# Altium footprint library PcbLib1.PcbLib: 34 footprints (part 3 of 3)
Each footprint in its own frame and in the unit in brackets; x right, y up, seen from the top. Pads: shape width x height; smd on the part's side, far side on the other; paste and mask are expansions set on the pad; w line width, h text height; cw(c..) or ccw(c..) is an arc to the next point about the centre after c.
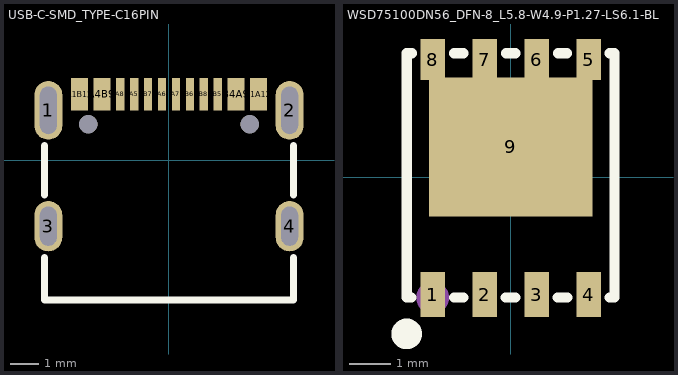
[diagram p2: the footprints below, top view; thin cyan lines are the x and y axes]

## USB-C-SMD_TYPE-C16PIN [mm]
pads (18):
  oval 1x2.1 hole 0.6 slot 1.7 at 90 deg: 1(-4.32,1.787) 2(4.32,1.787)
  oval 1x1.8 hole 0.6 slot 1.4 at 90 deg: 3(-4.32,-2.362) 4(4.32,-2.362)
  rect 0.6x1.15 smd: A1B12(-3.2,2.362) A4B9(-2.4,2.362) B1A12(3.2,2.362) B4A9(2.4,2.362)
  rect 0.3x1.15 smd: A5(-1.25,2.362) A6(-0.25,2.362) A7(0.25,2.362) A8(-1.75,2.362) B5(1.75,2.362) B6(0.75,2.362) B7(-0.75,2.362) B8(1.25,2.362)
  round 0.65 hole 0.65 unplated: ""(-2.89,1.288) ""(2.89,1.288)
Top Overlay:
  lines w0.254: -4.45,-3.482 -4.45,-5 4.45,-5 4.45,-3.482 ; -4.45,-1.243 -4.45,0.518 ; 4.45,-1.243 4.45,0.518
Top Paste:
  region: -3.5,2.937 -2.9,2.937 -2.9,1.787 -3.5,1.787
  region: -2.7,2.937 -2.1,2.937 -2.1,1.787 -2.7,1.787
  region: 2.9,2.937 3.5,2.937 3.5,1.787 2.9,1.787
  region: 2.1,2.937 2.7,2.937 2.7,1.787 2.1,1.787
  region: 1.6,2.937 1.9,2.937 1.9,1.787 1.6,1.787
  region: 1.1,2.937 1.4,2.937 1.4,1.787 1.1,1.787
  region: 0.6,2.937 0.9,2.937 0.9,1.787 0.6,1.787
  region: 0.1,2.937 0.4,2.937 0.4,1.787 0.1,1.787
  region: -0.4,2.937 -0.1,2.937 -0.1,1.787 -0.4,1.787
  region: -0.9,2.937 -0.6,2.937 -0.6,1.787 -0.9,1.787
  region: -1.4,2.937 -1.1,2.937 -1.1,1.787 -1.4,1.787
  region: -1.9,2.937 -1.6,2.937 -1.6,1.787 -1.9,1.787
  region: 3.82,-1.962 3.82,-1.863 3.896,-1.679 4.037,-1.539 4.221,-1.462 4.419,-1.462 4.603,-1.539 4.744,-1.679 4.82,-1.863 4.82,-1.962 4.82,-2.762 4.82,-2.862 4.744,-3.046 4.603,-3.186 4.419,-3.262 4.221,-3.262 4.037,-3.186 3.896,-3.046 3.82,-2.862 3.82,-2.762
  region: -4.82,-1.962 -4.82,-1.863 -4.744,-1.679 -4.603,-1.539 -4.419,-1.462 -4.221,-1.462 -4.037,-1.539 -3.896,-1.679 -3.82,-1.863 -3.82,-1.962 -3.82,-2.762 -3.82,-2.862 -3.896,-3.046 -4.037,-3.186 -4.221,-3.262 -4.419,-3.262 -4.603,-3.186 -4.744,-3.046 -4.82,-2.862 -4.82,-2.762
  region: 3.82,2.337 3.82,2.437 3.896,2.621 4.037,2.761 4.221,2.837 4.419,2.837 4.603,2.761 4.744,2.621 4.82,2.437 4.82,2.337 4.82,1.237 4.82,1.138 4.744,0.954 4.603,0.814 4.419,0.737 4.221,0.737 4.037,0.814 3.896,0.954 3.82,1.138 3.82,1.237
  region: -4.82,2.337 -4.82,2.437 -4.744,2.621 -4.603,2.761 -4.419,2.837 -4.221,2.837 -4.037,2.761 -3.896,2.621 -3.82,2.437 -3.82,2.337 -3.82,1.237 -3.82,1.138 -3.896,0.954 -4.037,0.814 -4.221,0.737 -4.419,0.737 -4.603,0.814 -4.744,0.954 -4.82,1.138 -4.82,1.237
Mechanical 15:
  circle w0.25: c-2.89,1.288 r0.125
  circle w0.25: c2.89,1.288 r0.125

## WSD75100DN56_DFN-8_L5.8-W4.9-P1.27-LS6.1-BL [mm]
pads (9):
  rect 0.6x1.1 smd: 1(-1.905,-2.875) 2(-0.635,-2.875) 3(0.635,-2.875) 4(1.905,-2.875)
  rect 0.6x1 smd: 5(1.905,2.875) 6(0.635,2.875) 7(-0.635,2.875) 8(-1.905,2.875)
  rect 4x3.4 smd: 9(0,0.738)
Top Overlay:
  lines w0.254: -2.429,-2.942 -2.543,-2.942 -2.543,3.027 -2.424,3.027 ; -1.386,-2.942 -1.159,-2.942 ; -1.381,3.027 -1.154,3.027 ; -0.116,-2.942 0.111,-2.942 ; -0.111,3.027 0.116,3.027 ; 1.154,-2.942 1.381,-2.942 ; 1.159,3.027 1.376,3.027 ; 2.419,3.027 2.537,3.027 2.537,-2.942 2.424,-2.942
  lines w0.5: -2.67,-3.835 ccw(c-2.545,-3.834) -2.67,-3.833
Top Paste:
  region: -2.21,3.378 -2.21,2.368 -2,2.368 -2,-0.962 2,-0.962 2,2.368 2.21,2.368 2.21,3.378 1.6,3.378 1.6,2.438 0.94,2.438 0.94,3.378 0.32,3.378 0.32,2.438 -0.33,2.438 -0.33,3.378 -0.94,3.378 -0.94,2.438 -1.6,2.438 -1.6,3.378
  region: -1.605,-3.425 -1.605,-2.325 -2.205,-2.325 -2.205,-3.425
  region: -0.335,-3.425 -0.335,-2.325 -0.935,-2.325 -0.935,-3.425
  region: 0.935,-3.425 0.935,-2.325 0.335,-2.325 0.335,-3.425
  region: 2.205,-3.425 2.205,-2.325 1.605,-2.325 1.605,-3.425
Mechanical 15:
  circle w0.4: c-1.908,-2.946 r0.2